# Altium footprint library SR PCB Library V01.PcbLib: 402 footprints (part 22 of 26)
Each footprint in its own frame and in the unit in brackets; x right, y up, seen from the top. Pads: shape width x height; smd on the part's side, far side on the other; paste and mask are expansions set on the pad; w line width, h text height; cw(c..) or ccw(c..) is an arc to the next point about the centre after c.
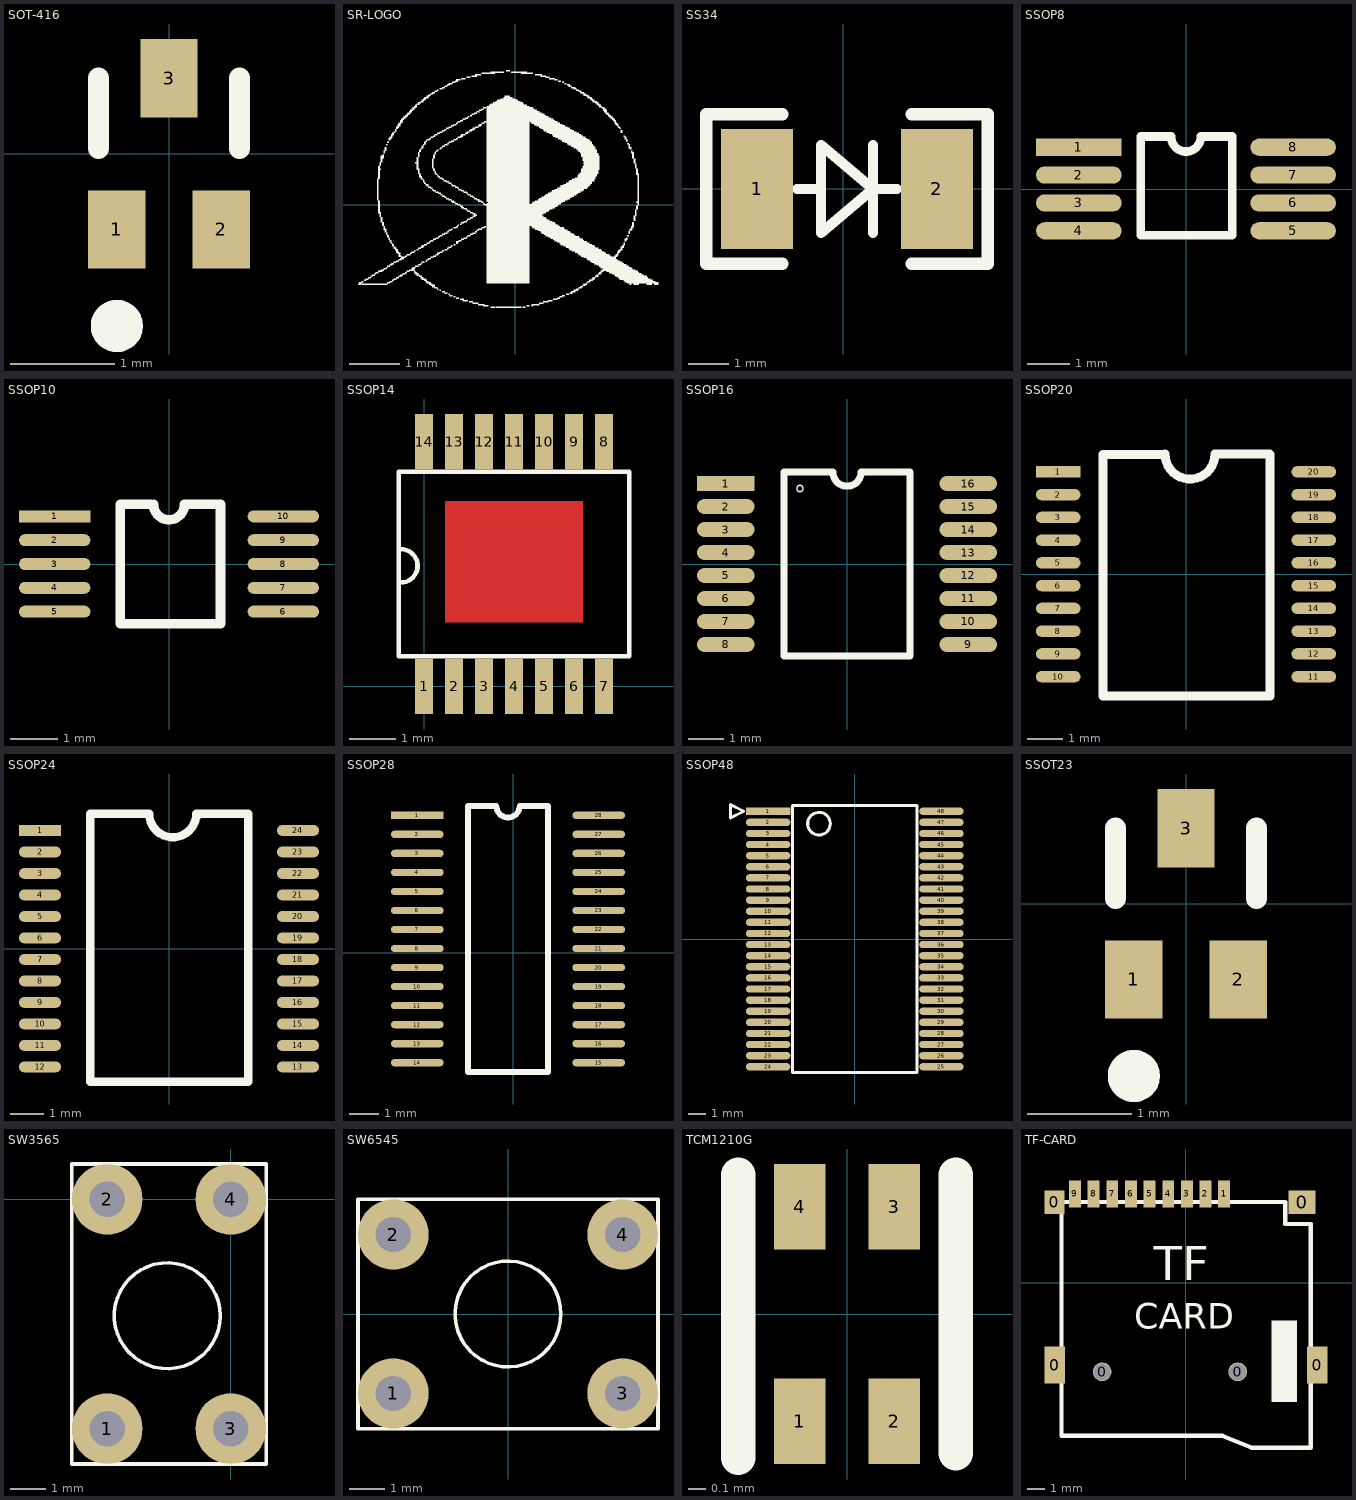
[diagram p21: the footprints below, top view; thin cyan lines are the x and y axes]

## SOT-416 [mm]
height 1
pads (3):
  rect 0.55x0.75 smd: 1(-0.5,-0.725) 2(0.5,-0.725) 3(0,0.725)
Top Overlay:
  circle w0.25: c-0.5,-1.65 r0.125
  lines w0.2: -0.676,0.05 -0.676,0.725 ; 0.675,0.05 0.675,0.725

## SR-LOGO [mm]
Top Overlay:
  drawing of 848 lines, arcs and shapes, not listed

## SS34 [mm]
pads (2):
  rect 1.8x3 smd: 1(-2.159,0) 2(2.341,0)
Top Overlay:
  lines w0.254: -1.159,0 -0.559,0 ; 0.741,-1.1 0.741,1.1 ; 1.341,0 0.741,0 ; 0.741,0 -0.559,-1.1 -0.559,1.1 0.741,0
  lines w0.305: -1.524,-1.87 -3.429,-1.87 -3.429,1.87 -1.524,1.87 ; 1.706,-1.87 3.611,-1.87 3.611,1.87 1.706,1.87

## SSOP8 [mm]
pads (8):
  rect 2x0.4 smd: 1(-2.5,0.975)
  oval 2x0.4 smd: 2(-2.5,0.325) 3(-2.5,-0.325) 4(-2.5,-0.975) 5(2.5,-0.975) 6(2.5,-0.325) 7(2.5,0.325) 8(2.5,0.975)
Top Overlay:
  lines w0.2: -0.366,1.225 -1.052,1.225 -1.052,-1.082 1.081,-1.082 1.081,1.225 0.396,1.225 ; -0.35,1.225 ccw(c0,1.225) 0.35,1.225

## SSOP10 [mm]
pads (10):
  rect 1.5x0.25 smd: 1(-2.4,1)
  oval 1.5x0.25 smd: 2(-2.4,0.5) 3(-2.4,0) 4(-2.4,-0.5) 5(-2.4,-1) 6(2.4,-1) 7(2.4,-0.5) 8(2.4,0) 9(2.4,0.5) 10(2.4,1)
Top Overlay:
  lines w0.2: -0.381,1.25 -1.027,1.25 -1.027,-1.25 1.081,-1.25 1.081,1.25 0.33,1.25 ; -0.325,1.25 ccw(c0,1.25) 0.325,1.25

## SSOP14 [mm]
pads (14):
  rect 0.4x1.2 smd: 1(0,0) 2(0.65,0) 3(1.3,0) 4(1.95,0) 5(2.6,0) 6(3.25,0) 7(3.9,0) 8(3.9,5.3) 9(3.25,5.3) 10(2.6,5.3) 11(1.95,5.3) 12(1.3,5.3) 13(0.65,5.3) 14(0,5.3)
Top Layer:
  rectangle: 0.45,1.38 3.45,4.02
Top Overlay:
  lines w0.1: -0.5,2.25 ccw(c-0.5,2.611) -0.5,2.971 ; -0.55,0.65 -0.55,4.65 4.45,4.65 4.45,0.65 -0.55,0.65

## SSOP16 [mm]
pads (16):
  rect 1.63x0.42 smd: 1(-3.425,2.275)
  oval 1.63x0.42 smd: 2(-3.425,1.625) 3(-3.425,0.975) 4(-3.425,0.325) 5(-3.425,-0.325) 6(-3.425,-0.975) 7(-3.425,-1.625) 8(-3.425,-2.275) 9(3.425,-2.275) 10(3.425,-1.625) 11(3.425,-0.975) 12(3.425,-0.325) 13(3.425,0.325) 14(3.425,0.975) 15(3.425,1.625) 16(3.425,2.275)
Top Overlay:
  lines w0.2: -0.402,2.6 -1.775,2.6 -1.775,-2.6 1.775,-2.6 1.775,2.6 0.41,2.6 ; -0.4,2.6 ccw(c0,2.6) 0.4,2.6
  text "o" at -1.444,2.021 h0.3

## SSOP20 [mm]
pads (20):
  rect 1.27x0.33 smd: 1(-3.65,2.925)
  oval 1.27x0.33 smd: 2(-3.65,2.275) 3(-3.65,1.625) 4(-3.65,0.975) 5(-3.65,0.325) 6(-3.65,-0.325) 7(-3.65,-0.975) 8(-3.65,-1.625) 9(-3.65,-2.275) 10(-3.65,-2.925) 11(3.65,-2.925) 12(3.65,-2.275) 13(3.65,-1.625) 14(3.65,-0.975) 15(3.65,-0.325) 16(3.65,0.325) 17(3.65,0.975) 18(3.65,1.625) 19(3.65,2.275) 20(3.65,2.925)
Top Overlay:
  lines w0.254: 2.348,-3.474 -2.376,-3.474 -2.376,3.425 -0.606,3.425 -0.598,3.433 ccw(c0.115,3.433) 0.828,3.433 2.391,3.433 2.399,3.425 2.399,-3.474

## SSOP24 [mm]
pads (24):
  rect 1.27x0.33 smd: 1(-3.9,3.575)
  oval 1.27x0.33 smd: 2(-3.9,2.925) 3(-3.9,2.275) 4(-3.9,1.625) 5(-3.9,0.975) 6(-3.9,0.325) 7(-3.9,-0.325) 8(-3.9,-0.975) 9(-3.9,-1.625) 10(-3.9,-2.275) 11(-3.9,-2.925) 12(-3.9,-3.575) 13(3.9,-3.575) 14(3.9,-2.925) 15(3.9,-2.275) 16(3.9,-1.625) 17(3.9,-0.975) 18(3.9,-0.325) 19(3.9,0.325) 20(3.9,0.975) 21(3.9,1.625) 22(3.9,2.275) 23(3.9,2.925) 24(3.9,3.575)
Top Overlay:
  lines w0.254: 2.348,-4.025 -2.376,-4.025 -2.376,4.075 -0.606,4.075 -0.598,4.083 ccw(c0.115,4.083) 0.828,4.083 2.391,4.083 2.399,4.075 2.399,-4.025

## SSOP28 [mm]
pads (28):
  rect 1.8x0.25 smd: 1(-3.275,4.699)
  oval 1.8x0.25 smd: 2(-3.275,4.049) 3(-3.275,3.399) 4(-3.275,2.749) 5(-3.275,2.099) 6(-3.275,1.449) 7(-3.275,0.799) 8(-3.275,0.149) 9(-3.275,-0.501) 10(-3.275,-1.151) 11(-3.275,-1.801) 12(-3.275,-2.451) 13(-3.275,-3.101) 14(-3.275,-3.751) 15(2.925,-3.751) 16(2.925,-3.101) 17(2.925,-2.451) 18(2.925,-1.801) 19(2.925,-1.151) 20(2.925,-0.501) 21(2.925,0.149) 22(2.925,0.799) 23(2.925,1.449) 24(2.925,2.099) 25(2.925,2.749) 26(2.925,3.399) 27(2.925,4.049) 28(2.925,4.699)
Top Overlay:
  lines w0.2: -0.61,5.024 -1.54,5.024 -1.54,-4.076 1.19,-4.076 1.19,5.024 0.254,5.024 ; -0.575,5.024 ccw(c-0.175,5.024) 0.225,5.024

## SSOP48 [mil]
pads (48):
  rect 100x16.54 smd: 1(-195,287.5)
  oval 100x16.54 smd: 2(-195,262.5) 3(-195,237.5) 4(-195,212.5) 5(-195,187.5) 6(-195,162.5) 7(-195,137.5) 8(-195,112.5) 9(-195,87.5) 10(-195,62.5) 11(-195,37.5) 12(-195,12.5) 13(-195,-12.5) 14(-195,-37.5) 15(-195,-62.5) 16(-195,-87.5) 17(-195,-112.5) 18(-195,-137.5) 19(-195,-162.5) 20(-195,-187.5) 21(-195,-212.5) 22(-195,-237.5) 23(-195,-262.5) 24(-195,-287.5) 25(195,-287.5) 26(195,-262.5) 27(195,-237.5) 28(195,-212.5) 29(195,-187.5) 30(195,-162.5) 31(195,-137.5) 32(195,-112.5) 33(195,-87.5) 34(195,-62.5) 35(195,-37.5) 36(195,-12.5) 37(195,12.5) 38(195,37.5) 39(195,62.5) 40(195,87.5) 41(195,112.5) 42(195,137.5) 43(195,162.5) 44(195,187.5) 45(195,212.5) 46(195,237.5) 47(195,262.5) 48(195,287.5)
Top Overlay:
  circle w7: c-80.5,259.5 r25.5
  lines w7: -280,272.5 -250,287.5 -280,302.5 -280,272.5 ; -140,-300 -140,300 140,300 140,-300 -140,-300

## SSOT23 [mm]
height 1
pads (3):
  rect 0.55x0.75 smd: 1(-0.5,-0.725) 2(0.5,-0.725) 3(0,0.725)
Top Overlay:
  circle w0.25: c-0.5,-1.65 r0.125
  lines w0.2: -0.676,0.05 -0.676,0.725 ; 0.675,0.05 0.675,0.725

## SW3565 [mm] "按键"
pads (4):
  round 2 hole 1: 1(-3.5,-6.5) 2(-3.5,0) 3(0,-6.5) 4(0,0)
Top Overlay:
  circle w0.1: c-1.8,-3.3 r1.5
  lines w0.1: -4.5,-7.5 1,-7.5 1,1 -4.5,1 -4.5,-7.5

## SW6545 [mm] "按键"
pads (4):
  round 2 hole 1: 1(-3.25,-2.25) 2(-3.25,2.25) 3(3.25,-2.25) 4(3.25,2.25)
Top Overlay:
  circle w0.1: c0,0 r1.5
  lines w0.1: -4.25,-3.25 4.25,-3.25 4.25,3.25 -4.25,3.25 -4.25,-3.25

## TCM1210G [mm] "Chip Capacitor; Body 1.75x 0.85mm (LxW typ)"
height 1.35
pads (4):
  rect 0.3x0.5 smd: 1(-0.275,-0.625) 2(0.275,-0.625) 3(0.275,0.625) 4(-0.275,0.625)
Top Overlay:
  lines w0.2: -0.635,-0.838 -0.635,0.813 ; 0.635,-0.813 0.635,0.813

## TF-CARD [mm]
pads (15):
  rect 1.2x1.4 smd: 0(-7.755,4.75)
  rect 1.2x2.2 smd: 0(-7.745,-4.85) 0(7.755,-4.85)
  round 1.1 hole 1: 0(-4.945,-5.25) 0(3.055,-5.25)
  rect 1.6x1.4 smd: 0(6.855,4.75)
  rect 0.7x1.6 smd: 1(2.255,5.25) 2(1.155,5.25) 3(0.055,5.25) 4(-1.045,5.25) 5(-2.145,5.25) 6(-3.245,5.25) 7(-4.345,5.25) 8(-5.445,5.25) 9(-6.545,5.25)
Top Overlay:
  rectangle: 5.049,-7.044 6.548,-2.218
  lines w0.254: -7.34,-9.031 -7.34,4.769 5.868,4.769 5.868,3.473 7.36,3.473 7.36,-9.731 3.865,-9.731 2.16,-9.031 -7.34,-9.031
  text "TF" at -1.911,0.145 h2
  text "CARD" at -3.054,-2.7 h1.5